# Altium schematic symbol library ABM8W-16P0000MHZ-8-K1Z-T3.SchLib: 1 symbol
Pins are listed as number, name and electrical type; pins without a type are passive.

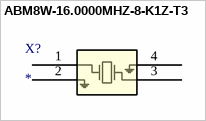
[diagram p0: symbol ABM8W-16.0000MHZ-8-K1Z-T3]

## ABM8W-16.0000MHZ-8-K1Z-T3
designator X?
No Description Available; Mfr_Name: Abracon; Type: Crystals; RefDes: RefDes
footprint XTAL4P_ABM8W_ABR
pins: 1, 2, 3, 4